# Altium footprint library 28Pins_Project_V1[1.PcbLib: 27 footprints (part 1 of 2)
Each footprint in its own frame and in the unit in brackets; x right, y up, seen from the top. Pads: shape width x height; smd on the part's side, far side on the other; paste and mask are expansions set on the pad; w line width, h text height; cw(c..) or ccw(c..) is an arc to the next point about the centre after c.
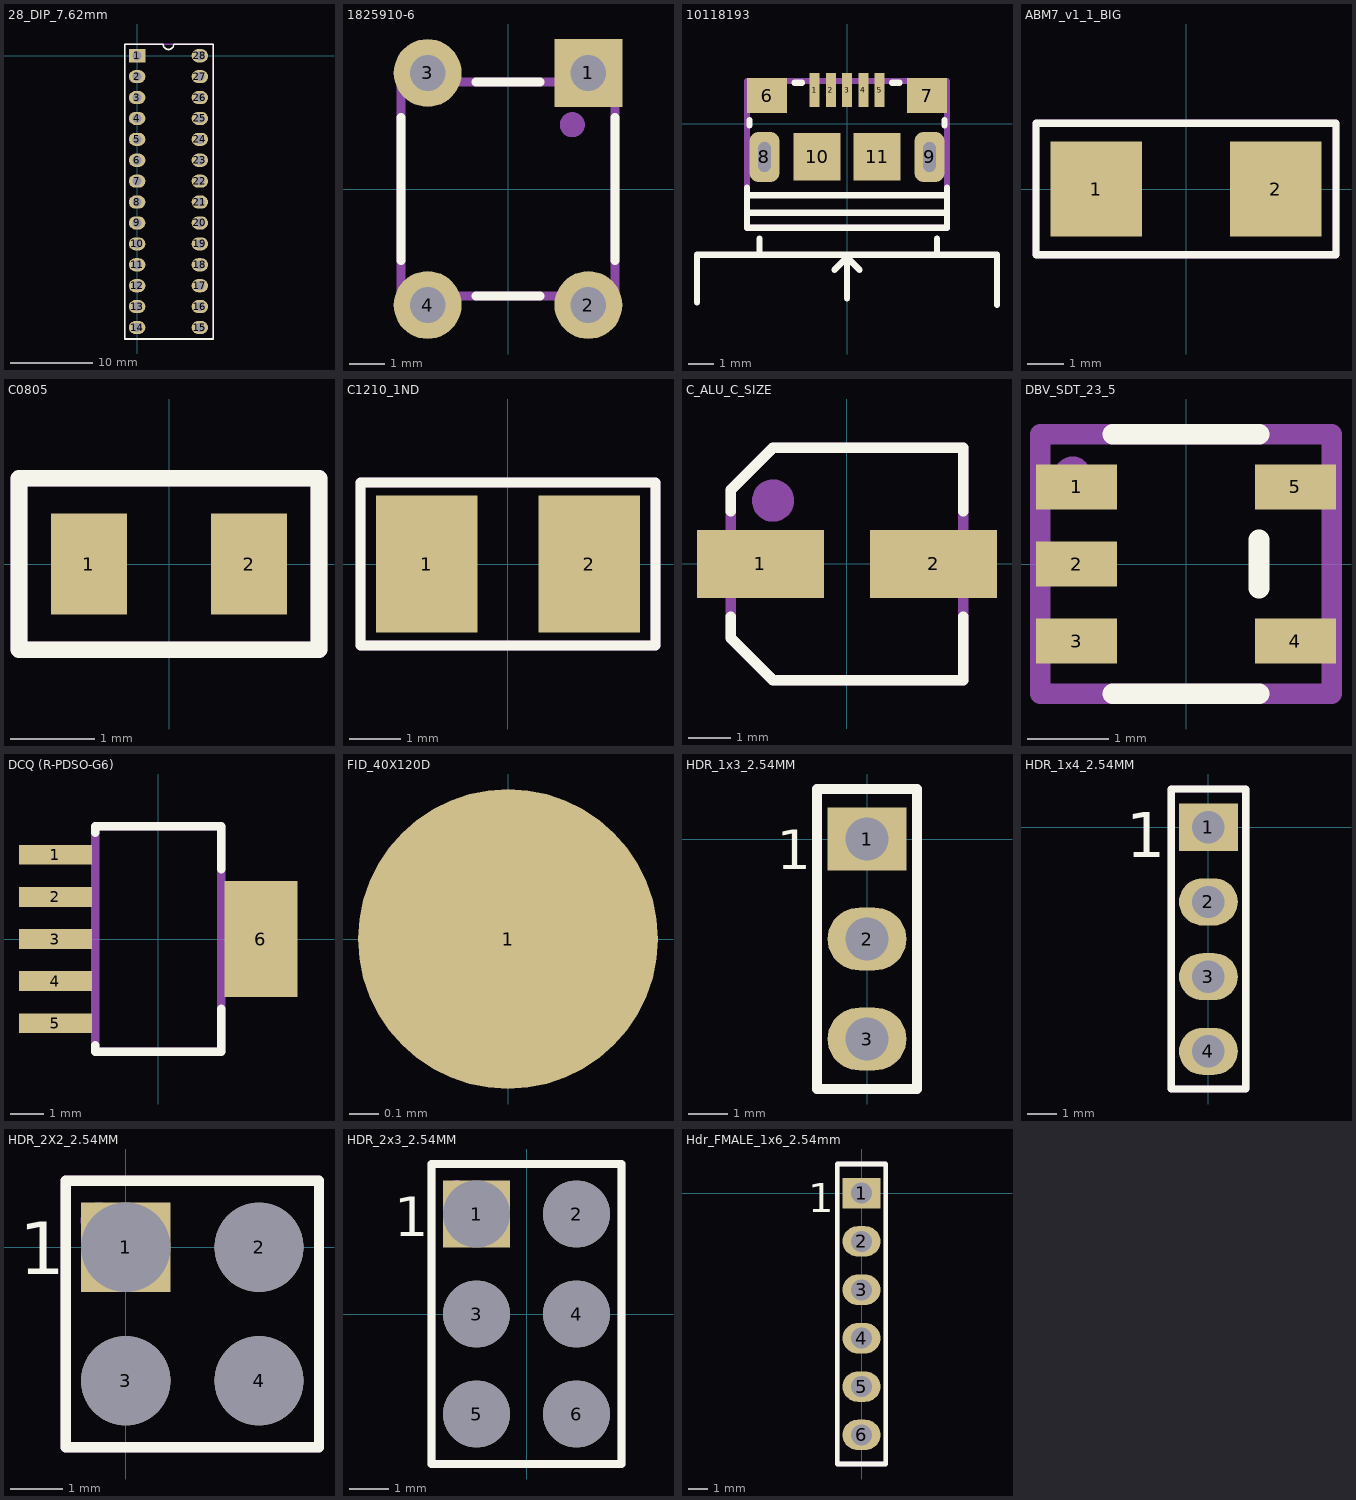
[diagram p0: the footprints below, top view; thin cyan lines are the x and y axes]

## 28_DIP_7.62mm [mm]
pads (28):
  rect 2x1.6 hole 1.1: 1(0,0)
  oval 2x1.6 hole 1.1: 2(0,-2.54) 3(0,-5.08) 4(0,-7.62) 5(0,-10.16) 6(0,-12.7) 7(0,-15.24) 8(0,-17.78) 9(0,-20.32) 10(0,-22.86) 11(0,-25.4) 12(0,-27.94) 13(0,-30.48) 14(0,-33.02) 15(7.62,-33.02) 16(7.62,-30.48) 17(7.62,-27.94) 18(7.62,-25.4) 19(7.62,-22.86) 20(7.62,-20.32) 21(7.62,-17.78) 22(7.62,-15.24) 23(7.62,-12.7) 24(7.62,-10.16) 25(7.62,-7.62) 26(7.62,-5.08) 27(7.62,-2.54) 28(7.62,0)
Top Overlay:
  lines w0.2: -1.524,-34.417 -1.524,1.397 3.175,1.397 ccw(c3.81,1.397) 4.445,1.397 9.271,1.397 9.271,-34.417 -1.524,-34.417
Mechanical 29 (Mech29):
  circle w0.8: c0,0 r0.359
  lines w0.2: -1.524,-34.417 -1.524,1.397 9.271,1.397 9.271,-34.417 -1.524,-34.417
  text ".Designator" at 4.876,-23.071 h3
3D body "28 pin dip.step": height 4.85, standoff -1.37, extent -0.127,-34.519 7.747,1.422

## 28_DIP_7.62mm_SOCKET [mm]
3D body "dil_socket.stp": height 4.2, standoff -3.17, extent -1.74,-32.86 8.36,2.64

## 1825910-6 [mm]
pads (4):
  rect 1.9x1.9 hole 1: 1(2.25,3.25)
  round 1.9 hole 1: 2(2.25,-3.25) 3(-2.25,3.25) 4(-2.25,-3.25)
Top Overlay:
  lines w0.254: -3,-2 -3,2 ; -0.9,-3 0.9,-3 ; -0.9,3 0.9,3 ; 3,-2 3,2
Mechanical 29 (Mech29):
  circle w0.5: c1.8,1.8 r0.1
  lines w0.254: -3,-3 -3,3 3,3 3,-3 -3,-3
  text ".Designator" at -0.457,-0.102 h1.52
3D body "User Library-FSM4JLH(1825910-5).step": height 5.01, standoff -3.5, extent -2.995,-3.998 2.995,3.8

## 10118193 [mm]
pads (11):
  rect 0.4x1.35 smd mask+0.05: 1(-1.3,1.338) 2(-0.65,1.338) 3(0,1.338) 4(0.65,1.338) 5(1.3,1.338)
  rect 1.6x1.4 smd: 6(-3.2,1.112) 7(3.2,1.112)
  rrect60% 1.2x2 hole 0.5 slot 1.2 at 90 deg: 8(-3.3,-1.338) 9(3.3,-1.338)
  rect 1.9x1.9 smd: 10(-1.2,-1.338) 11(1.2,-1.338)
Top Overlay:
  lines w0.254: -6,-7.15 -6,-5.95 -6,-5.25 5.1,-5.25 6,-5.25 6,-6.05 6,-7.25 ; -4,-2.562 -4,-4.162 -3.9,-4.162 3.9,-4.162 4,-4.162 4,-2.562 ; -3.9,-3.562 4,-3.562 ; -3.9,-2.862 4,-2.862 ; -3.9,-0.062 -3.9,0.138 ; -3.5,-5.25 -3.5,-4.75 -3.5,-4.6 ; -2.1,1.637 -1.8,1.637 ; -0.5,-5.85 0,-5.35 ; 0,-7 0,-5.25 ; 0,-5.45 0,-5.3 ; 0.5,-5.85 0,-5.35 ; 1.8,1.637 2.1,1.637 ; 3.6,-5.25 3.6,-4.75 3.6,-4.6 ; 3.9,-0.062 3.9,0.138 ; 0,-5.35 0,-5.25 ; 0,-5.35 0,-5.25
Mechanical 29 (Mech29):
  lines w0.254: -4,-4.166 4,-4.166 4,1.7 -4,1.7 -4,-4.166
  text ".Designator" at -1.816,-0.971 h1.52
3D body "10118193-0001lfc.stp": height 2.87, standoff -0.73, extent -3.933,-4.098 3.924,1.562

## ABM7_v1_1_BIG [mm]
pads (2):
  rect 2.5x2.6 smd: 1(-2.45,0) 2(2.45,0)
Top Overlay:
  lines w0.2: -4.1,-1.8 4.1,-1.8 4.1,1.8 -4.1,1.8 -4.1,-1.8
Mechanical 29 (Mech29):
  lines w0.2: -4.1,-1.8 4.1,-1.8 4.1,1.8 -4.1,1.8 -4.1,-1.8
  text ".Designator" at -1.5,-0.492 h1.52
3D body: height 1.45, standoff 1.4, extent -1.85,-1.2 2.05,1.2
3D body "ABM7.STEP": height 1.4, standoff 0, extent -2.997,-1.7 2.997,1.805

## C0805 [mm]
pads (2):
  rect 0.9x1.2 smd: 1(-0.95,0) 2(0.95,0)
Top Overlay:
  lines w0.2: -1.778,-1.016 1.778,-1.016 1.778,1.016 -1.778,1.016 ; -1.776,-1.016 -1.776,0 -1.776,1.016
Mechanical 29 (Mech29):
  lines w0.2: -1.778,-1.016 1.778,-1.016 1.778,1.016 -1.778,1.016 -1.778,-1.016
  text ".Designator" at -1.094,-0.233 h0.6
3D body "CAPC2012X95N EIA 0805.step": height 1.71, standoff 0.51, extent -1,-0.475 1,0.475
3D body "CAPC2012X95N EIA 0805.step": height 1.21, standoff 0.01, extent -1,-0.475 1,0.475

## C1210_1ND [mm]
pads (2):
  rect 2x2.7 smd: 1(-1.6,0) 2(1.6,0)
Top Overlay:
  lines w0.2: -2.9,-1.6 -2.9,1.6 2.9,1.6 2.9,-1.6 -2.9,-1.6
Mechanical 29 (Mech29):
  lines w0.2: -2.9,-1.6 2.9,-1.6 2.9,1.6 -2.9,1.6 -2.9,-1.6
  text ".Designator" at -0.8,-0.25 h0.6
3D body: height 2.7, standoff 0, extent 1.4,-1.25 1.7,1.25
3D body: height 2.7, standoff 0, extent -1.4,-1.25 1.4,1.25
3D body: height 2.7, standoff 0, extent -1.7,-1.25 -1.4,1.25

## C_ALU_C_SIZE [mm]
pads (2):
  rect 3x1.6 smd: 1(-2.05,0) 2(2.05,0)
Top Overlay:
  lines w0.254: -2.75,-1.25 -2.75,-1.75 -1.75,-2.75 2.75,-2.75 2.75,-1.25 ; -2.75,1.25 -2.75,1.75 -1.75,2.75 2.75,2.75 2.75,1.25
Mechanical 29 (Mech29):
  circle w0.5: c-1.75,1.5 r0.25
  lines w0.254: -2.75,-1.75 -1.75,-2.75 2.75,-2.75 2.75,2.75 -1.75,2.75 -2.75,1.75 -2.75,-1.75
  text ".Designator" at -1.05,-0.617 h1.3
3D body "User Library-capacitor size C.step": height 5.41, standoff -0.01, extent -2.95,-2.65 2.95,2.65

## DBV_SDT_23_5 [mm]
pads (5):
  rect 1x0.55 smd: 1(-1.35,0.95) 2(-1.35,0) 3(-1.35,-0.95) 4(1.35,-0.95) 5(1.35,0.95)
Top Overlay:
  lines w0.254: -0.9,-1.6 0.9,-1.6 ; -0.9,1.6 0.9,1.6 ; 0.9,-0.3 0.9,0.3
Mechanical 29 (Mech29):
  circle w0.254: c-1.4,1.1 r0.1
  lines w0.254: -1.8,-1.6 -1.8,1.6 1.8,1.6 1.8,-1.6 -1.8,-1.6
  text ".Designator" at -1.3,-0.5 h0.6
3D body "User Library-TPS79333DBVR.step": height 1.62, standoff 0, extent -1.565,-1.525 1.464,1.525

## DCQ (R-PDSO-G6) [mm]
pads (6):
  rect 2.2x0.6 smd: 1(-3.1,2.54) 2(-3.1,1.27) 3(-3.1,0) 4(-3.1,-1.27) 5(-3.1,-2.54)
  rect 2.2x3.5 smd: 6(3.1,0)
Top Overlay:
  lines w0.254: -1.9,-3.2 -1.9,-3.4 1.9,-3.4 1.9,-2.1 ; -1.9,3.2 -1.9,3.4 1.9,3.4 1.9,2.1
Mechanical 29 (Mech29):
  lines w0.254: -1.9,-3.4 1.9,-3.4 1.9,2.1 1.9,3.4 -1.9,3.4 -1.9,3.2 -1.9,-3.2 -1.9,-3.4
  text ".Designator" at -1.095,-0.52 h1.5
3D body "User Library-TPS73701DCQ.step": height 1.8, standoff 0, extent -3.63,-3.275 3.63,3.275

## FID_40X120D [mil]
pads (1):
  round 40 smd paste-1574.8 mask+40: 1(0,0)

## HDR_1x3_2.54MM [mm]
pads (3):
  rect 2x1.6 hole 1.1: 1(0,0)
  oval 2x1.6 hole 1.1: 2(0,-2.54) 3(0,-5.08)
Top Overlay:
  lines w0.254: -1.27,-6.35 -1.27,1.27 1.27,1.27 1.27,-6.35 -1.27,-6.35
  text "1" at -2.286,-0.762 h1
Mechanical 29 (Mech29):
  circle w0.5: c0,0 r0.1
  lines w0.254: -1.27,-6.35 -1.27,1.27 1.27,1.27 1.27,-6.35 0.825,-6.35 -0.825,-6.35 -1.27,-6.35
  text ".Designator" at 0.538,-4.686 h1.52
3D body "HDR_1x3_White.stp": height 8.39, standoff -3.11, extent -1.21,-6.135 1.2,1.085

## HDR_1x4_2.54MM [mm]
pads (4):
  rect 2x1.6 hole 1.1: 1(0,0)
  oval 2x1.6 hole 1.1: 2(0,-2.54) 3(0,-5.08) 4(0,-7.62)
Top Overlay:
  lines w0.254: -1.27,-8.9 1.27,-8.9 1.27,1.3 -1.27,1.3 -1.27,-8.9
  text "1" at -2.794,-1.016 h1.52
Mechanical 29 (Mech29):
  circle w0.5: c0,0 r0.1
  lines w0.254: -1.27,-8.9 1.27,-8.9 1.27,1.3 -1.27,1.3 -1.27,-8.9
  text ".Designator" at 0.61,-8.052 h1.52
3D body "HDR_1x4_White.stp": height 5.67, standoff -5.83, extent -1.25,-8.705 1.16,1.055

## HDR_2X2_2.54MM [mm]
pads (4):
  rect 1.7x1.7 hole 1.7: 1(0,0)
  round 1.7 hole 1.7: 2(2.54,0) 3(0,-2.54) 4(2.54,-2.54)
Top Overlay:
  lines w0.2: -1.143,-3.81 -1.143,1.27 3.683,1.27 3.683,-3.81 -1.143,-3.81
  text "1" at -2.032,-0.508 h1
Mechanical 29 (Mech29):
  circle w0.5: c-0.508,0.508 r0.1
  lines w0.2: -1.143,-3.81 3.683,-3.81 3.683,1.27 -1.143,1.27 -1.143,-3.81
  text ".Designator" at 1.575,-3.251 h1.52
3D body "961204-6404-XX.stp": height 8.01, standoff -3.29, extent -1.27,-3.77 3.81,1.23

## HDR_2x3_2.54MM [mm]
pads (6):
  rect 1.7x1.7 hole 1.7: 1(-1.27,2.54)
  round 1.7 hole 1.7: 2(1.27,2.54) 3(-1.27,0) 4(1.27,0) 5(-1.27,-2.54) 6(1.27,-2.54)
Top Overlay:
  lines w0.2: -2.413,-3.81 -2.413,3.81 2.413,3.81 2.413,-3.81 -2.413,-3.81
  text "1" at -3.356,1.978 h1
Mechanical 29 (Mech29):
  circle w0.5: c-1.778,3.048 r0.1
  lines w0.2: -2.413,-3.81 2.413,-3.81 2.413,3.81 -2.413,3.81 -2.413,-3.81
  text ".Designator" at 0.483,-2.464 h1.52
3D body "961206-6404-XX.stp": height 8.05, standoff -3.25, extent -2.5,-3.81 2.5,3.81

## Hdr_FMALE_1x6_2.54mm [mm]
pads (6):
  rect 2x1.6 hole 1.1: 1(0,0)
  oval 2x1.6 hole 1.1: 2(0,-2.54) 3(0,-5.08) 4(0,-7.62) 5(0,-10.16) 6(0,-12.7)
Top Overlay:
  lines w0.254: -1.27,-14.224 1.27,-14.224 1.27,1.524 -1.27,1.524 -1.27,-14.224
  text "1" at -2.794,-1.016 h1.52
Mechanical 29 (Mech29):
  circle w0.5: c0,0 r0.1
  lines w0.254: -1.27,-6.604 -1.27,-14.224 ; -1.27,-14.224 -0.635,-14.224 0.635,-14.224 1.27,-14.224 1.27,1.524 -1.27,1.524 -1.27,-14.224
  text ".Designator" at 0.432,-13.157 h1.52
3D body "m20-7820646_asm.stp": height 8.64, standoff -2.86, extent -1.27,-14.17 1.23,1.47